# EAGLE library part ZFKDS_06 (library rfdi)
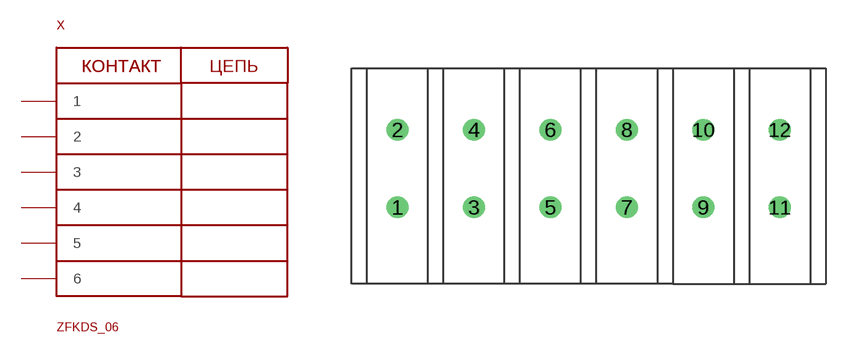
[diagram p4: symbol with the pads of ZFKDS_06; footprint ZFKDS_06]

Designator prefix X

## ZFKDS_06  [ZFKDS_06]
1  1
2  1
3  2
4  2
5  3
6  3
7  4
8  4
9  5
10  5
11  6
12  6

## Footprint ZFKDS_06 (pad centres in mm)
drill 0.8 pad 1.422: 1 0,0; 2 0,5.08; 3 5,0; 4 5,5.08; 5 10,0; 6 10,5.08; 7 15,0; 8 15,5.08; 9 20,0; 10 20,5.08; 11 25,0; 12 25,5.08